# EAGLE library part PIC16F688 (library microchip-16F688)
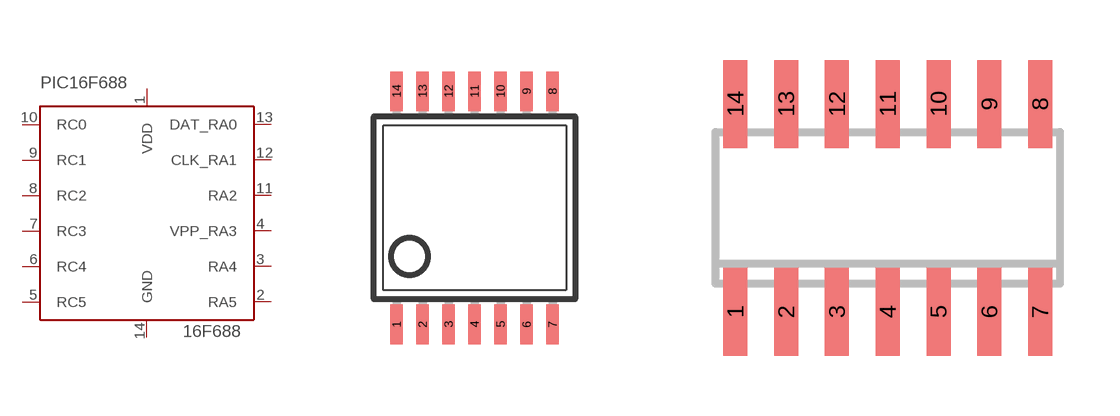
[diagram p0: symbol with the pads of TSSOP14; footprints TSSOP14, SOIC14]

Designator prefix -

## PIC16F688  [TSSOP14]
1  VDD  pas
2  RA5  pas
3  RA4  pas
4  VPP_RA3  pas
5  RC5  pas
6  RC4  pas
7  RC3  pas
8  RC2  pas
9  RC1  pas
10  RC0  pas
11  RA2  pas
12  CLK_RA1  pas
13  DAT_RA0  pas
14  GND  pas

## PIC16F688SOIC14  [SOIC14]
Pads as for TSSOP14

## Footprint TSSOP14 (pad centres in mm)
Thin Shrink Small Outline Plastic 14 MAX3223-MAX3243.pdf
smd 0.305 x 0.991: 1 -1.95,-2.918; 2 -1.3,-2.918; 3 -0.65,-2.918; 4 0,-2.918; 5 0.65,-2.918; 6 1.3,-2.918; 7 1.95,-2.918; 8 1.95,2.918; 9 1.3,2.918; 10 0.65,2.918; 11 0,2.918; 12 -0.65,2.918; 13 -1.3,2.918; 14 -1.95,2.918

## Footprint SOIC14 (pad centres in mm)
SMALL OUTLINE INTEGRATED CIRCUIT body 3.9 mm/JEDEC MS-012AC
smd 0.6 x 2.2: 1 -3.81,-2.6; 2 -2.54,-2.6; 3 -1.27,-2.6; 4 0,-2.6; 5 1.27,-2.6; 6 2.54,-2.6; 7 3.81,-2.6; 8 3.81,2.6; 9 2.54,2.6; 10 1.27,2.6; 11 0,2.6; 12 -1.27,2.6; 13 -2.54,2.6; 14 -3.81,2.6